# Altium footprint library ARM-64.PcbLib: 1 footprints
Each footprint in its own frame and in the unit in brackets; x right, y up, seen from the top. Pads: shape width x height; smd on the part's side, far side on the other; paste and mask are expansions set on the pad; w line width, h text height; cw(c..) or ccw(c..) is an arc to the next point about the centre after c.
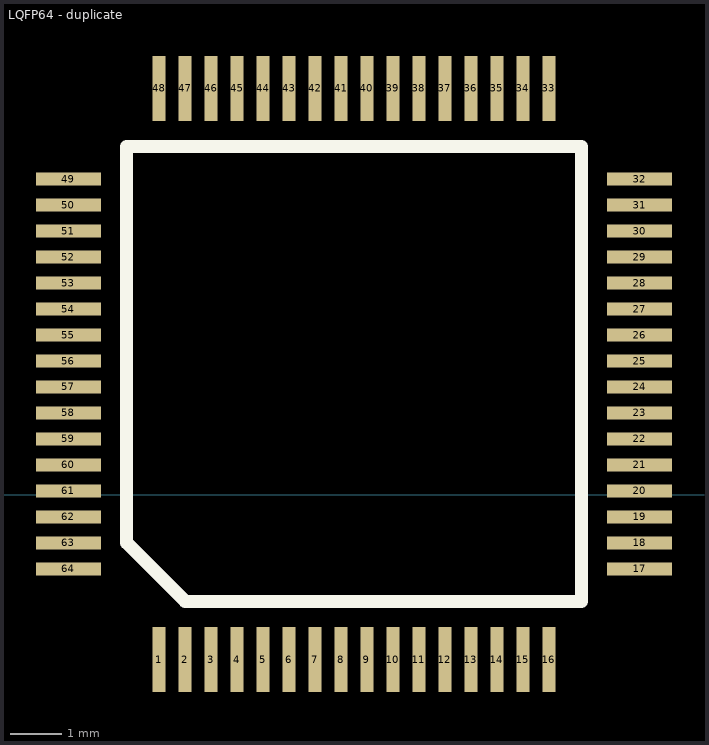
[diagram p0: the footprint, top view; thin cyan lines are the x and y axes]

## LQFP64 - duplicate [mil]
pads (64):
  rect 10x50 smd: 1(848.22,-127.07) 2(868.22,-127.07) 3(888.22,-127.07) 4(908.22,-127.07) 5(928.22,-127.07) 6(948.22,-127.07) 7(968.22,-127.07) 8(988.22,-127.07) 9(1008.22,-127.07) 10(1028.22,-127.07) 11(1048.22,-127.07) 12(1068.22,-127.07) 13(1088.22,-127.07) 14(1108.22,-127.07) 15(1128.22,-127.07) 16(1148.22,-127.07) 33(1148.22,312.93) 34(1128.22,312.93) 35(1108.22,312.93) 36(1088.22,312.93) 37(1068.22,312.93) 38(1048.22,312.93) 39(1028.22,312.93) 40(1008.22,312.93) 41(988.22,312.93) 42(968.22,312.93) 43(948.22,312.93) 44(928.22,312.93) 45(908.22,312.93) 46(888.22,312.93) 47(868.22,312.93) 48(848.22,312.93)
  rect 50x10 smd: 17(1218.22,-57.07) 18(1218.22,-37.07) 19(1218.22,-17.07) 20(1218.22,2.93) 21(1218.22,22.93) 22(1218.22,42.93) 23(1218.22,62.93) 24(1218.22,82.93) 25(1218.22,102.93) 26(1218.22,122.93) 27(1218.22,142.93) 28(1218.22,162.93) 29(1218.22,182.93) 30(1218.22,202.93) 31(1218.22,222.93) 32(1218.22,242.93) 49(778.22,242.93) 50(778.22,222.93) 51(778.22,202.93) 52(778.22,182.93) 53(778.22,162.93) 54(778.22,142.93) 55(778.22,122.93) 56(778.22,102.93) 57(778.22,82.93) 58(778.22,62.93) 59(778.22,42.93) 60(778.22,22.93) 61(778.22,2.93) 62(778.22,-17.07) 63(778.22,-37.07) 64(778.22,-57.07)
Top Overlay:
  lines w10: 823.22,-37.07 823.22,267.93 1173.22,267.93 1173.22,-82.07 868.22,-82.07 823.22,-37.07